# EAGLE library part AS3661 (library firefly)
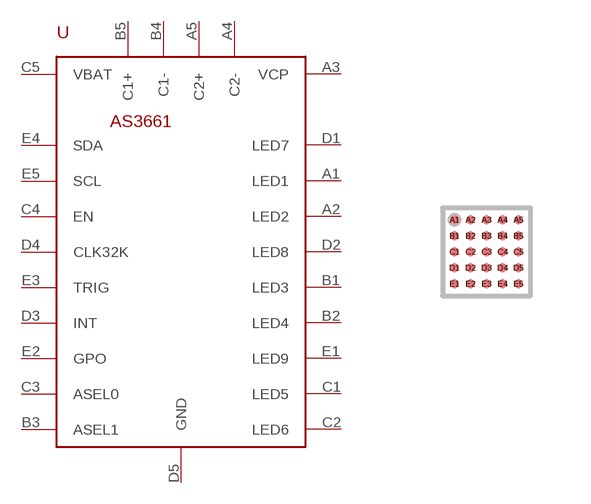
[diagram p12: symbol with the pads of WL-CSP-25; footprint WL-CSP-25]

Designator prefix -

## AS3661WL-CSP-25  [WL-CSP-25]
A1  LED1
A2  LED2
A3  VCP
A4  C2-
A5  C2+
B1  LED3
B2  LED4
B3  ASEL1
B4  C1-
B5  C1+
C1  LED5
C2  LED6
C3  ASEL0
C4  EN
C5  VBAT
D1  LED7
D2  LED8
D3  INT
D4  CLK32K
D5  GND
E1  LED9
E2  GPO
E3  TRIG
E4  SDA
E5  SCL

## Footprint WL-CSP-25 (pad centres in mm)
smd 0.225 x 0.225: A1 -0.8,0.8; A2 -0.4,0.8; A3 0,0.8; A4 0.4,0.8; A5 0.8,0.8; B1 -0.8,0.4; B2 -0.4,0.4; B3 0,0.4; B4 0.4,0.4; B5 0.8,0.4; C1 -0.8,0; C2 -0.4,0; C3 0,0; C4 0.4,0; C5 0.8,0; D1 -0.8,-0.4; D2 -0.4,-0.4; D3 0,-0.4; D4 0.4,-0.4; D5 0.8,-0.4; E1 -0.8,-0.8; E2 -0.4,-0.8; E3 0,-0.8; E4 0.4,-0.8; E5 0.8,-0.8